# EAGLE library part MORNTA1001AT5 (library MORNTA1001AT5)
1k Ohm +/-0.1% 50mW Power Per Element Isolated 4 Resistor Network/Array +/-25ppm/C 8-TSSOP, 8-MSOP (0.118", 3.00mm Width) Source: Datasheet <https://www.vishay.com/docs/60129/morn.pdf>
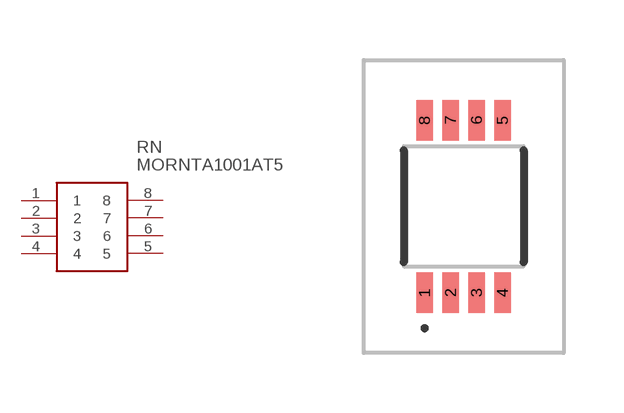
[diagram p0: symbol with the pads of MORNTA1001AT5; footprint MORNTA1001AT5]

Designator prefix RN

## MORNTA1001AT5 (Description: 1k Ohm +/-0.1% 50mW Power Per Element Isolated 4 Resistor Network/Array +/-25ppm/C 8-TSSOP, 8-MSOP (0.118", 3.00mm Width); Height: 1.1mm; Manufacturer_Name: Vishay; Manufacturer_Part_Number: MORNTA1001AT5; Mouser_Part_Number: 71-MORNTA1001AT5; Mouser_Price-Stock: https://www.mouser.co.uk/ProductDetail/Vishay-Thin-Film/MORNTA1001AT5?qs=mlqvmmZDxoUQbRHGbp0kiA%3D%3D)  [MORNTA1001AT5]
1  1
2  2
3  3
4  4
5  5
6  6
7  7
8  8

## Footprint MORNTA1001AT5 (pad centres in mm)
MORNTA1001AT5-1
smd 0.406 x 1.016: 1 -0.975,-2.159; 2 -0.325,-2.159; 3 0.325,-2.159; 4 0.975,-2.159; 5 0.975,2.159; 6 0.325,2.159; 7 -0.325,2.159; 8 -0.975,2.159